# Altium integrated library TLV76701DRVR.IntLib: 1 symbol
Pins are listed as number, name and electrical type; pins without a type are passive.

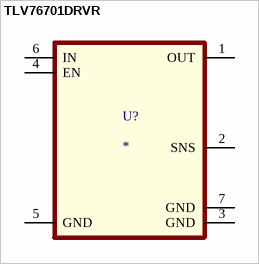
[diagram p0: symbol TLV76701DRVR]

## TLV76701DRVR
designator U?
Adjustable- and fixed-output, 1-A, 16-V, positive-voltage low-dropout (LDO) linear regulator; MF: Texas Instruments; MP: TLV76733DRVR; SnapEDA_Link: https://www.snapeda.com/parts/TLV76733DRVR/Texas+Instruments/view-part/?ref=snap; Package: WSON-6 Texas Instruments; Value: *; Check_prices: https://www.snapeda.com/parts/TLV76733DRVR/Texas+Instruments/view-part/?ref=eda
footprint SON65P200X200X80-7N
pins: 1 OUT, 2 SNS, 3 GND (power), 4 EN, 5 GND (power), 6 IN, 7 GND